# Altium schematic symbol library WunderBar_v102b.SCHLIB: 47 symbols
Pins are listed as number, name and electrical type; pins without a type are passive.

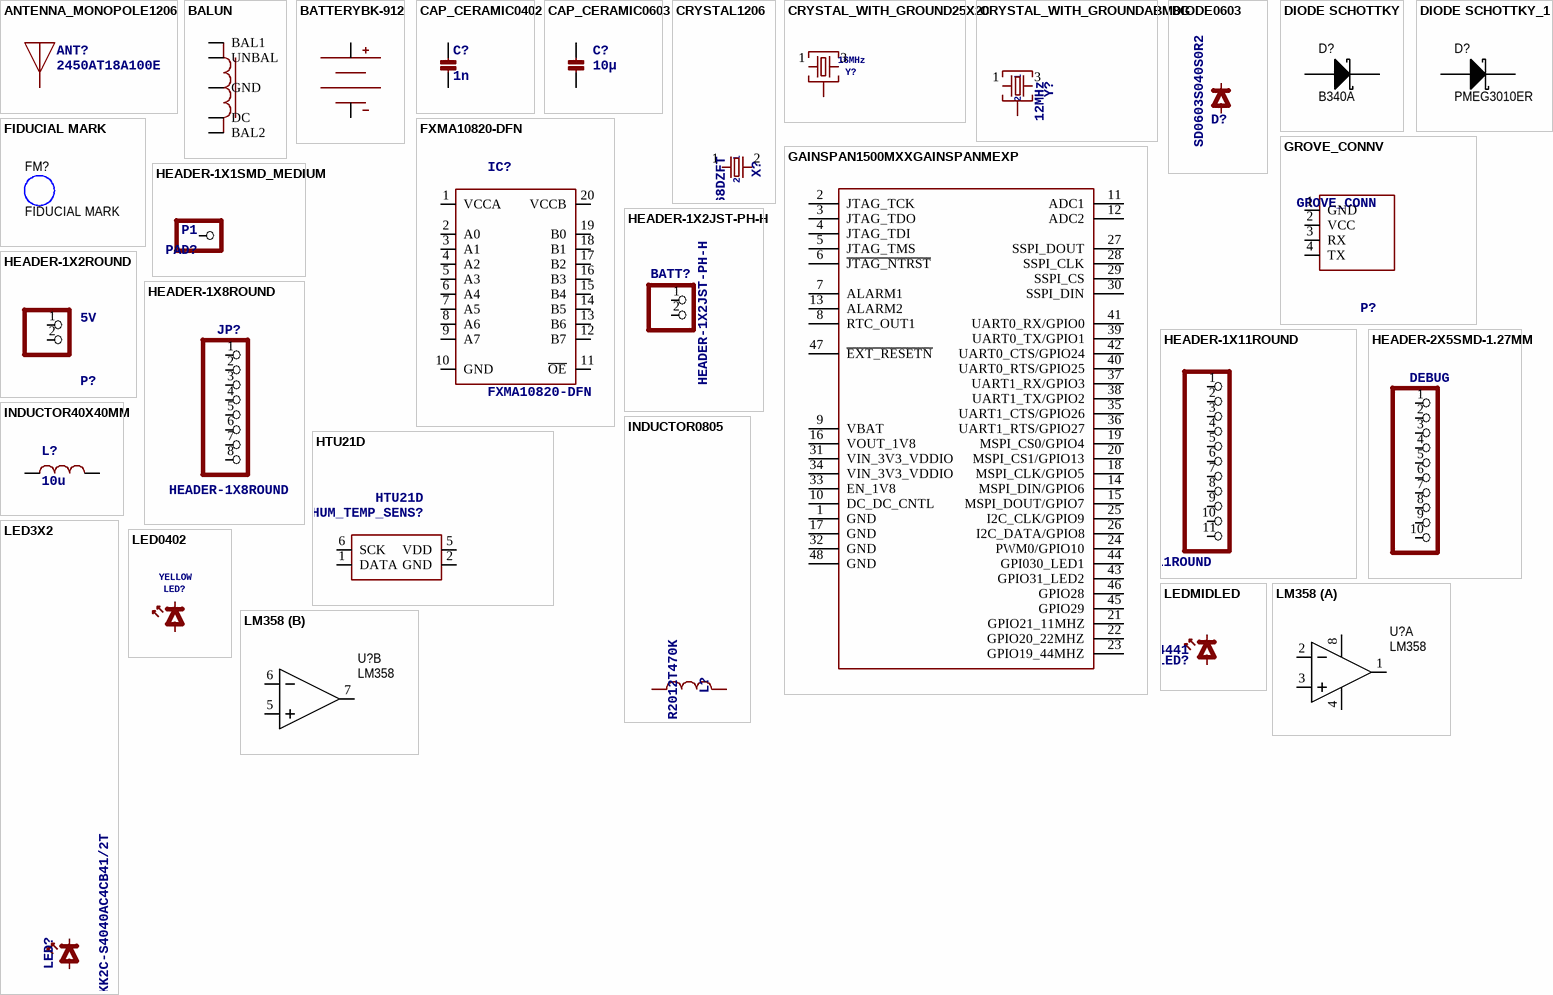
[diagram p0: symbols ANTENNA_MONOPOLE1206 to LM358]

## ANTENNA_MONOPOLE1206
designator ANT?, comment 2450AT18A100E
2.45 GHz Antenna
footprint 1206_MINIMELF_COMBO
pins: 1 ANT

## BALUN
designator BALUN?, comment 2450BM14A0002T  (value not drawn)
2.45 GHz Impedance Matched Balun-Filter
footprint 6-PIN-0603
pins: 1 UNBAL, 2 GND (power), 3 BAL1, 4 BAL2, 5 DC (power)

## BATTERYBK-912
designator BAT?  (value not drawn)
Coin battery holder
footprint BK-912
pins: +1 + (power), +2 + (power), - (power)

## CAP_CERAMIC0402
designator C?, comment 1n
Ceramic Capacitor
footprint 0402
pins: 1, 2

## CAP_CERAMIC0603
designator C?, comment 10µ
Ceramic Capacitor
footprint 0603
pins: 1 P1, 2 P2

## CRYSTAL1206
designator X?, comment CM315D32768DZFT
1: 1; 2: 2
footprint SOD123W
pins: 1, 2

## CRYSTAL_WITH_GROUND25X20
designator Y?, comment 16MHz
16MHz crystal 2.5x2mm
footprint CRYSTAL25X20
pins: 1, 2 (power), 3, 4 (power)

## CRYSTAL_WITH_GROUNDABM8G
designator Y?, comment 12MHz
1: 1; 2: 2
footprint ABM8G
pins: 1, 2 GND (power), 3 2, 4 GND (power)

## DIODE0603
designator D?, comment SD0603S040S0R2
Dioden in allen Variationen, die mir bis jetzt über den Weg gelaufen sind.
footprint 0603_POLAR
pins: A ANODE, K CATHODE

## DIODE SCHOTTKY
designator D?, comment B340A
Schottky Diode; SMD: Yes
footprint DIODE SMA
footprint DIODE SMB
footprint DIODE SMA
footprint SOD123W
pins: 1 A, 2 K

## DIODE SCHOTTKY_1
designator D?, comment PMEG3010ER
Schottky Diode; SMD: Yes
footprint DIODE SMA
footprint DIODE SMB
footprint DIODE SMC
footprint SOD123W
pins: 1 A, 2 K

## FIDUCIAL MARK
designator FM?
SMD: Fiducial
footprint FIDUCIAL MARK 0.6MM
2 alternate drawings of the same symbol

## FXMA10820-DFN
designator IC?
Fairchild 8-channel bidirectional level translator
footprint FXMA108
pins: 1 VCCA (power), 2 A0, 3 A1, 4 A2, 5 A3, 6 A4, 7 A5, 8 A6, 9 A7, 10 GND (power), 11 ~{OE}, 12 B7, 13 B6, 14 B5, 15 B4, 16 B3, 17 B2, 18 B1, 19 B0, 20 VCCB (power)

## GAINSPAN1500MXXGAINSPANMEXP
designator WIFI?  (value not drawn)
footprint GAINSPANM
pins: 1 GND, 2 JTAG_TCK, 3 JTAG_TDO, 4 JTAG_TDI, 5 JTAG_TMS, 6 ~{JTAG_NTRST}, 7 ALARM1, 8 RTC_OUT1, 9 VBAT, 10 DC_DC_CNTL, 11 ADC1, 12 ADC2, 13 ALARM2, 14 MSPI_DIN/GPIO6, 15 MSPI_DOUT/GPIO7, 16 VOUT_1V8, 17 GND, 18 MSPI_CLK/GPIO5, 19 MSPI_CS0/GPIO4, 20 MSPI_CS1/GPIO13, 21 GPIO21_11MHZ, 22 GPIO20_22MHZ, 23 GPIO19_44MHZ, 24 PWM0/GPIO10, 25 I2C_CLK/GPIO9, 26 I2C_DATA/GPIO8, 27 SSPI_DOUT, 28 SSPI_CLK, 29 SSPI_CS, 30 SSPI_DIN, 31 VIN_3V3_VDDIO, 32 GND, 33 EN_1V8, 34 VIN_3V3_VDDIO, 35 UART1_CTS/GPIO26, 36 UART1_RTS/GPIO27, 37 UART1_RX/GPIO3, 38 UART1_TX/GPIO2, 39 UART0_TX/GPIO1, 40 UART0_RTS/GPIO25, 41 UART0_RX/GPIO0, 42 UART0_CTS/GPIO24, 43 GPIO31_LED2, 44 GPI030_LED1, 45 GPIO29, 46 GPIO28, 47 ~{EXT_RESETN}, 48 GND

## GROVE_CONNV
designator P?, comment GROVE_CONN
Seeed Grove 4-pin 2mm connector
footprint GROVE_4P_SMD_2.0
pins: 1 GND, 2 VCC, 3 RX, 4 TX

## HEADER-1X1SMD_MEDIUM
designator PAD?, comment P1
<b>PIN HEADER</b>
footprint PCB_MEDIUM_RECT_PAD
pins: 1

## HEADER-1X2JST-PH-H
designator BATT?
<b>PIN HEADER</b>
footprint S2B-PH-SM4-TB
pins: 1, 2

## HEADER-1X2ROUND
designator P?, comment 5V
<b>PIN HEADER</b>
footprint 1X02_ROUND
pins: 1, 2

## HEADER-1X8ROUND
designator JP?
footprint 1X08_ROUND
pins: 1, 2, 3, 4, 5, 6, 7, 8

## HEADER-1X11ROUND
designator JP?
footprint 1X11_ROUND
pins: 1, 2, 3, 4, 5, 6, 7, 8, 9, 10, 11

## HEADER-2X5SMD-1.27MM
designator DEBUG?, comment DEBUG
cortex DEBUG connector
footprint 2X05_SMT
pins: 1, 2, 3, 4, 5, 6, 7, 8, 9, 10

## HTU21D
designator HUM_TEMP_SENS?
footprint HTU21D
pins: 1 DATA, 2 GND (power), 5 VDD (power), 6 SCK

## INDUCTOR40X40MM
designator L?, comment 10u
Generic inductor
footprint INDUCTOR_40X40
pins: 1, 2

## INDUCTOR0805
designator L?, comment Taiyo Yuden LBR2012T470K
Generic inductor
footprint 0805_MICROMELF_COMBO
pins: 1, 2

## LED3X2
designator LED?, comment Everlight 45-21/KK2C-S4040AC4CB41/2T
LED common
footprint LED3X2
pins: A ANODE, K CATHODE

## LED0402
designator LED?, comment YELLOW
LED common
footprint 0402_POLAR
pins: A ANODE, K CATHODE

## LEDMIDLED
designator LED?, comment SFH4441
LED common
footprint MIDLED
pins: A ANODE, C CATHODE

## LM358
designator U?
Low Power Dual Operational Amplifiers; SMD: Yes
footprint SO-8
part A pins: 1 OUT, 2 IN-, 3 IN+, 4 GND, 8 V+
part B pins: 5 IN+, 6 IN-, 7 OUT
2 alternate drawings of the same symbol

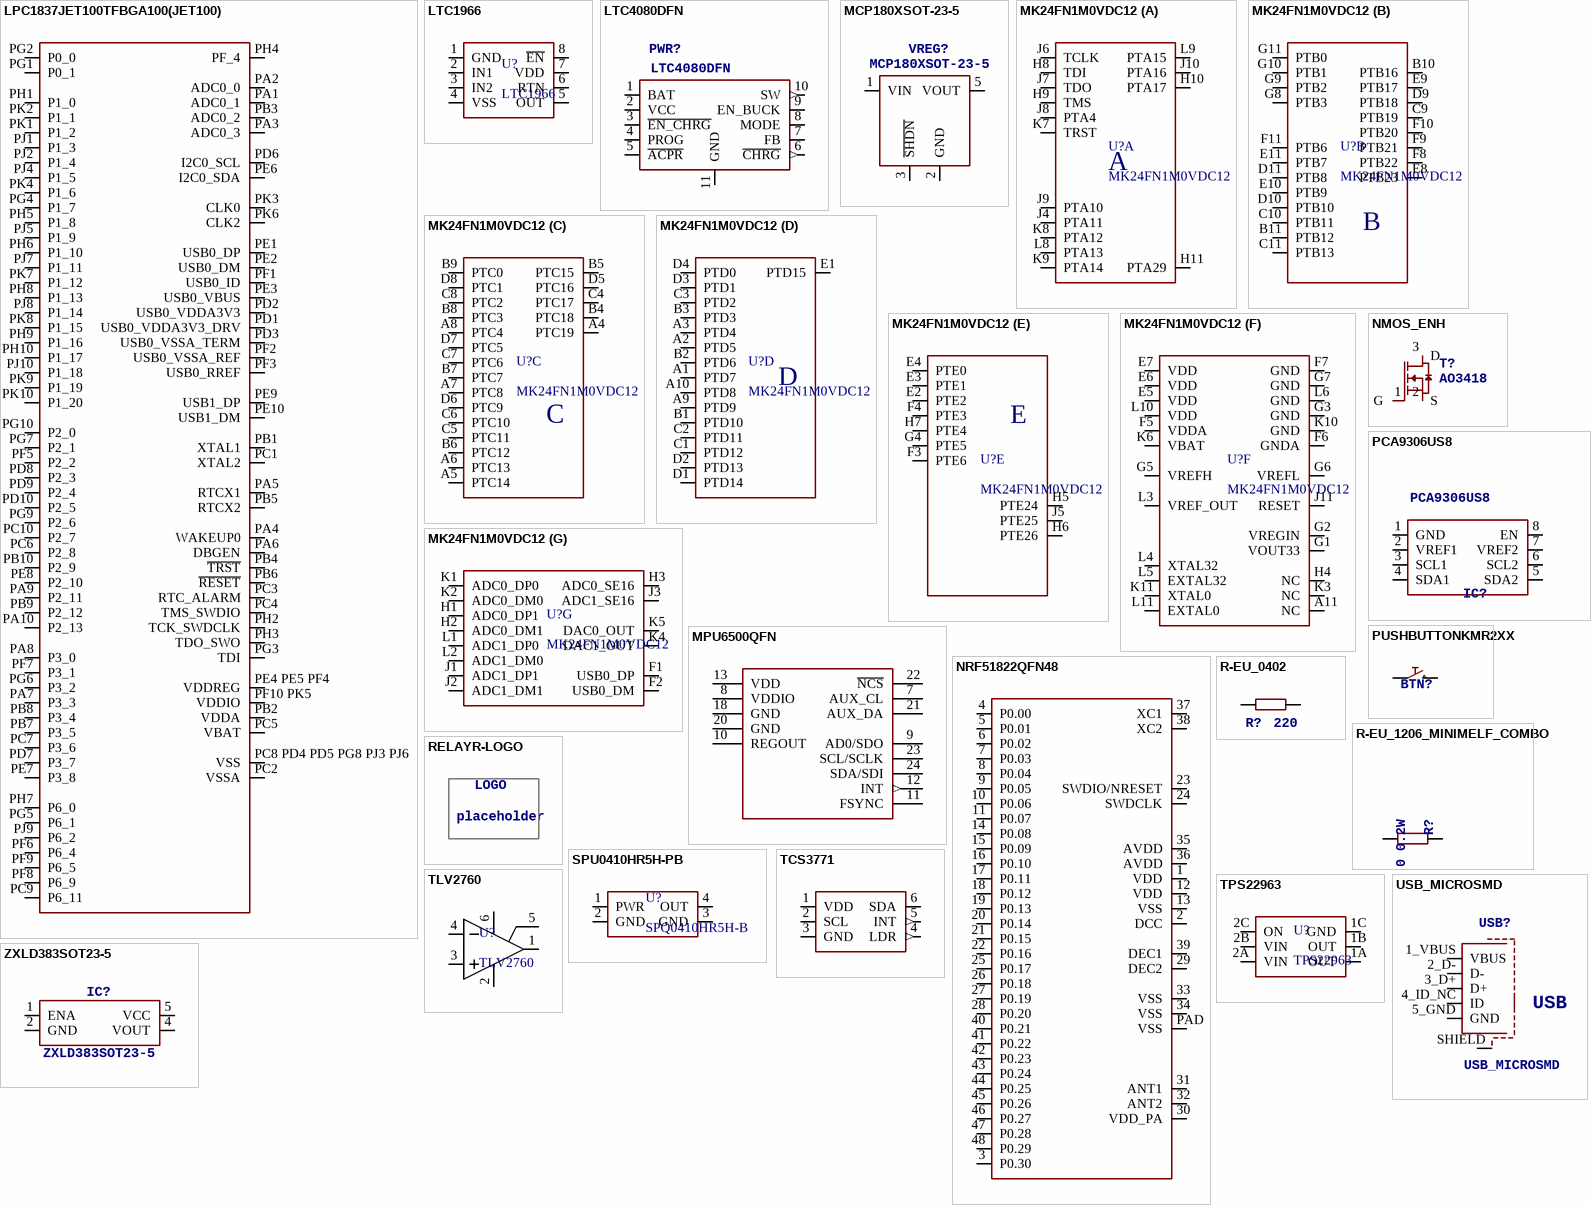
[diagram p1: symbols LPC1837JET100TFBGA100(JET100) to ZXLD383SOT23-5]

## LPC1837JET100TFBGA100(JET100)
designator MCU?  (value not drawn)
footprint BGA100-0.8
pins: PA1 ADC0_1, PA2 ADC0_0, PA3 ADC0_3, PA4 WAKEUP0, PA5 RTCX1, PA6 DBGEN, PA7 P3_3, PA8 P3_0, PA9 P2_11, PA10 P2_13, PB1 XTAL1, PB2 VDDA, PB3 ADC0_2, PB4 ~{TRST}, PB5 RTCX2, PB6 ~{RESET}, PB7 P3_5, PB8 P3_4, PB9 P2_12, PB10 P2_9, PC1 XTAL2, PC2 VSSA, PC3 RTC_ALARM, PC4 TMS_SWDIO, PC5 VBAT, PC6 P2_8, PC7 P3_6, PC8 PD4 PD5 PG8 PJ3 PJ6 VSS, PC9 P6_11, PC10 P2_7, PD1 USB0_VDDA3V3_DRV (power), PD2 USB0_VDDA3V3 (power), PD3 USB0_VSSA_TERM (power), PD6 I2C0_SCL, PD7 P3_7, PD8 P2_3, PD9 P2_4, PD10 P2_5, PE1 USB0_DP, PE2 USB0_DM, PE3 USB0_VBUS, PE4 PE5 PF4 VDDREG, PE6 I2C0_SDA, PE7 P3_8, PE8 P2_10, PE9 USB1_DP, PE10 USB1_DM, PF1 USB0_ID, PF2 USB0_VSSA_REF (power), PF3 USB0_RREF, PF5 P2_2, PF6 P6_4, PF7 P3_1, PF8 P6_9, PF9 P6_5, PF10 PK5 VDDIO, PG1 P0_1, PG2 P0_0, PG3 TDI, PG4 P1_7, PG5 P6_1, PG6 P3_2, PG7 P2_1, PG9 P2_6, PG10 P2_0, PH1 P1_0, PH2 TCK_SWDCLK, PH3 TDO_SWO, PH4 PF_4, PH5 P1_8, PH6 P1_10, PH7 P6_0, PH8 P1_13, PH9 P1_16, PH10 P1_17, PJ1 P1_3, PJ2 P1_4, PJ4 P1_5, PJ5 P1_9, PJ7 P1_11, PJ8 P1_14, PJ9 P6_2, PJ10 P1_18, PK1 P1_2, PK2 P1_1, PK3 CLK0, PK4 P1_6, PK6 CLK2, PK7 P1_12, PK8 P1_15, PK9 P1_19, PK10 P1_20

## LTC1966
designator U?
RMS-to-DC converter
footprint MSOP-8
pins: 1 GND (power), 2 IN1, 3 IN2 (power), 4 VSS, 5 OUT, 6 RTN, 7 VDD, 8 ~{EN}

## LTC4080DFN
designator PWR?
Linear Technology Li-Ion battery charger and buck regulator
footprint LTC4080_DFN
pins: 1 BAT (power), 2 VCC (power), 3 ~{EN_CHRG}, 4 PROG, 5 ~{ACPR}, 6 ~{CHRG} (out), 7 FB, 8 MODE, 9 EN_BUCK, 10 SW (out), 11 GND (power)

## MCP180XSOT-23-5
designator VREG?
<p>Cheap Microchip LDO</p>
footprint SOT-23-5
pins: 1 VIN (power), 2 GND (power), 3 ~{SHDN}, 5 VOUT (power)

## MK24FN1M0VDC12
designator U?
MK24FN1M0VDC12 212-PIN BGA Microcontroller
footprint BGA121-0.65 (BGA100-0.8)
part A pins: H8 TDI, H9 TMS, H10 PTA17, H11 PTA29, J4 PTA11, J6 TCLK, J7 TDO, J8 PTA4, J9 PTA10, J10 PTA16, K7 TRST, K8 PTA12, K9 PTA14, L8 PTA13, L9 PTA15
part B pins: B10 PTB16, B11 PTB12, C9 PTB19, C10 PTB11, C11 PTB13, D9 PTB18, D10 PTB10, D11 PTB8, E8 PTB23, E9 PTB17, E10 PTB9, E11 PTB7, F8 PTB22, F9 PTB21, F10 PTB20, F11 PTB6, G8 PTB3, G9 PTB2, G10 PTB1, G11 PTB0
part C pins: A4 PTC19, A5 PTC14, A6 PTC13, A7 PTC8, A8 PTC4, B4 PTC18, B5 PTC15, B6 PTC12, B7 PTC7, B8 PTC3, B9 PTC0, C4 PTC17, C5 PTC11, C6 PTC10, C7 PTC6, C8 PTC2, D5 PTC16, D6 PTC9, D7 PTC5, D8 PTC1
part D pins: A1 PTD7, A2 PTD5, A3 PTD4, A9 PTD9, A10 PTD8, B1 PTD10, B2 PTD6, B3 PTD3, C1 PTD12, C2 PTD11, C3 PTD2, D1 PTD14, D2 PTD13, D3 PTD1, D4 PTD0, E1 PTD15
part E pins: E2 PTE2, E3 PTE1, E4 PTE0, F3 PTE6, F4 PTE3, G4 PTE5, H5 PTE24, H6 PTE26, H7 PTE4, J5 PTE25
part F pins: A11 NC, E5 VDD, E6 VDD, E7 VDD, F5 VDDA, F6 GNDA, F7 GND, G1 VOUT33, G2 VREGIN, G3 GND, G5 VREFH, G6 VREFL, G7 GND, H4 NC, J11 RESET, K3 NC, K6 VBAT, K10 GND, K11 XTAL0, L3 VREF_OUT, L4 XTAL32, L5 EXTAL32, L6 GND, L10 VDD, L11 EXTAL0
part G pins: F1 USB0_DP, F2 USB0_DM, H1 ADC0_DP1, H2 ADC0_DM1, H3 ADC0_SE16, J1 ADC1_DP1, J2 ADC1_DM1, J3 ADC1_SE16, K1 ADC0_DP0, K2 ADC0_DM0, K4 DAC1_OUT, K5 DAC0_OUT, L1 ADC1_DP0, L2 ADC1_DM0
part A text: A
part B text: B
part C text: C
part D text: D
part E text: E

## MPU6500QFN
designator ACC_GYRO_SENS?  (value not drawn)
Invensense MPU6500 combined gyro + accelerometer, I2C
footprint QFN24-0.4
pins: 7 AUX_CL, 8 VDDIO, 9 AD0/SDO, 10 REGOUT, 11 FSYNC, 12 INT (out), 13 VDD (power), 18 GND (power), 20 GND (power), 21 AUX_DA, 22 ~{NCS}, 23 SCL/SCLK, 24 SDA/SDI

## NMOS_ENH
designator T?, comment AO3418
N-Channel MOSFET, enhancement mode
footprint SOT23
pins: 1 G, 2 S, 3 D

## NRF51822QFN48
designator BT?  (value not drawn)
Nordic Bluetooth 4.0 low energy modul
footprint QFN48_EP
pins: 1 VDD, 2 DCC, 3 P0.30, 4 P0.00, 5 P0.01, 6 P0.02, 7 P0.03, 8 P0.04, 9 P0.05, 10 P0.06, 11 P0.07, 12 VDD, 13 VSS, 14 P0.08, 15 P0.09, 16 P0.10, 17 P0.11, 18 P0.12, 19 P0.13, 20 P0.14, 21 P0.15, 22 P0.16, 23 SWDIO/NRESET, 24 SWDCLK, 25 P0.17, 26 P0.18, 27 P0.19, 28 P0.20, 29 DEC2, 30 VDD_PA, 31 ANT1, 32 ANT2, 33 VSS, 34 VSS, 35 AVDD, 36 AVDD, 37 XC1, 38 XC2, 39 DEC1, 40 P0.21, 41 P0.22, 42 P0.23, 43 P0.24, 44 P0.25, 45 P0.26, 46 P0.27, 47 P0.28, 48 P0.29, PAD VSS

## PCA9306US8
designator IC?
I2C bidirectional level translator
footprint US8
pins: 1 GND, 2 VREF1, 3 SCL1, 4 SDA1, 5 SDA2, 6 SCL2, 7 VREF2, 8 EN

## PUSHBUTTONKMR2XX
designator BTN?  (value not drawn)
<p><b>Push button</b> 1 x momentary close switches</p>
footprint CK-KMR2
pins: P1 1, P2 2, P3 3, P4 4

## R-EU_0402
designator R?, comment 220
RESISTOR
footprint 0402
pins: 1, 2

## R-EU_1206_MINIMELF_COMBO
designator R?, comment 20 0.2W
RESISTOR
footprint 1206_MINIMELF_COMBO
pins: 1, 2

## RELAYR-LOGO
designator LOGO?  (value not drawn)
LOGO: LOGO; placeholder: placeholder
footprint RELAYR-LOGO

## SPU0410HR5H-PB
designator U?, comment SPQ0410HR5H-B
SPU0410HR5H-PB mic
footprint SPQ0410HR5H-B
pins: 1 PWR (power), 2 GND, 3 GND (power), 4 OUT

## TCS3771
designator COLOR_SENS?  (value not drawn)
TAOS/ams color/light/proximity sensor
footprint DFN-6-0.65
pins: 1 VDD (power), 2 SCL, 3 GND (power), 4 LDR (out), 5 INT (out), 6 SDA

## TLV2760
designator U?
TI OP-AMP
footprint DBV-6
pins: 1 OUT, 2 GND, 3 IN+, 4 IN-, 5 ~{SHD}, 6 V+

## TPS22963
designator U?
LOAD SWITCH
footprint YZP-6
pins: 1A OUT, 1B OUT, 1C GND, 2A VIN (power), 2B VIN, 2C ON (power)

## USB_MICROSMD
designator USB?
Micro USB connector (A/B/OTG) with ID pin; USB: USB
footprint USB_MICRO_SMD
pins: 1_VBUS VBUS (power), 2_D- D-, 3_D+ D+, 4_ID_NC ID, 5_GND GND (power), SHIELD

## ZXLD383SOT23-5
designator IC?
Diodes Inc. boost LED driver
footprint SOT-23-5
pins: 1 ENA, 2 GND, 4 VOUT, 5 VCC